# Altium schematic symbol library PMCU-0330.SchLib: 1 symbol
Pins are listed as number, name and electrical type; pins without a type are passive.

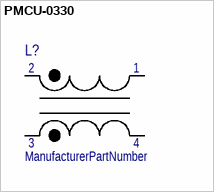
[diagram p0: symbol PMCU-0330]

## PMCU-0330
designator L?  (value not drawn)
ManufacturerPartNumber: ManufacturerPartNumber
pins: 1, 2, 3, 4